# Altium schematic symbol library SCH - MCU - ATTINY - MICROCHIP ATTINY48-CCU UFBGA32.SchLib: 1 symbol
Pins are listed as number, name and electrical type; pins without a type are passive.

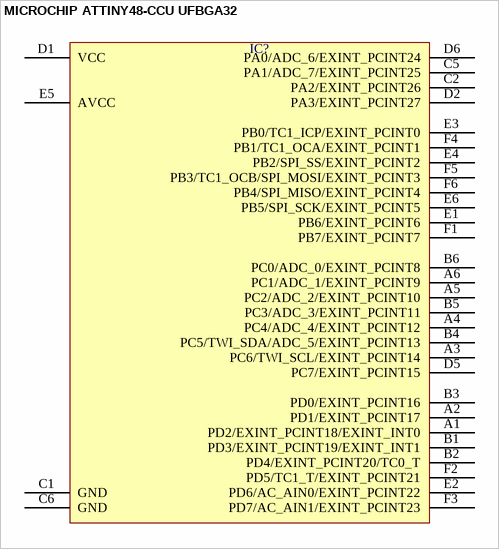
[diagram p0: symbol MICROCHIP ATTINY48-CCU UFBGA32]

## MICROCHIP ATTINY48-CCU UFBGA32
designator IC?  (value not drawn)
pins: A1 PD2/EXINT_PCINT18/EXINT_INT0, A2 PD1/EXINT_PCINT17, A3 PC6/TWI_SCL/EXINT_PCINT14, A4 PC4/ADC_4/EXINT_PCINT12, A5 PC2/ADC_2/EXINT_PCINT10, A6 PC1/ADC_1/EXINT_PCINT9, B1 PD3/EXINT_PCINT19/EXINT_INT1, B2 PD4/EXINT_PCINT20/TC0_T, B3 PD0/EXINT_PCINT16, B4 PC5/TWI_SDA/ADC_5/EXINT_PCINT13, B5 PC3/ADC_3/EXINT_PCINT11, B6 PC0/ADC_0/EXINT_PCINT8, C1 GND, C2 PA2/EXINT_PCINT26, C5 PA1/ADC_7/EXINT_PCINT25, C6 GND, D1 VCC, D2 PA3/EXINT_PCINT27, D5 PC7/EXINT_PCINT15, D6 PA0/ADC_6/EXINT_PCINT24, E1 PB6/EXINT_PCINT6, E2 PD6/AC_AIN0/EXINT_PCINT22, E3 PB0/TC1_ICP/EXINT_PCINT0, E4 PB2/SPI_SS/EXINT_PCINT2, E5 AVCC, E6 PB5/SPI_SCK/EXINT_PCINT5, F1 PB7/EXINT_PCINT7, F2 PD5/TC1_T/EXINT_PCINT21, F3 PD7/AC_AIN1/EXINT_PCINT23, F4 PB1/TC1_OCA/EXINT_PCINT1, F5 PB3/TC1_OCB/SPI_MOSI/EXINT_PCINT3, F6 PB4/SPI_MISO/EXINT_PCINT4